# Altium schematic symbol library Schlib1.SchLib: 2 symbols
Pins are listed as number, name and electrical type; pins without a type are passive.

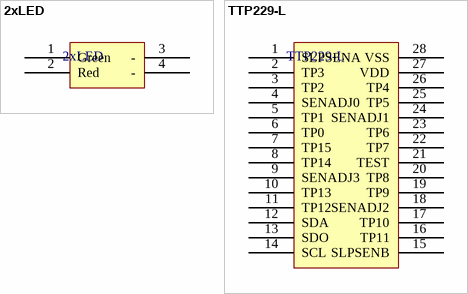
[diagram p0: symbols 2xLED to TTP229-L]

## 2xLED
designator D*
pins: 1 Green, 2 Red, 3 -, 4 -

## TTP229-L
designator U*
pins: 1 SLPSENA, 2 TP3, 3 TP2, 4 SENADJ0, 5 TP1, 6 TP0, 7 TP15, 8 TP14, 9 SENADJ3, 10 TP13, 11 TP12, 12 SDA, 13 SDO, 14 SCL, 15 SLPSENB, 16 TP11, 17 TP10, 18 SENADJ2, 19 TP9, 20 TP8, 21 TEST, 22 TP7, 23 TP6, 24 SENADJ1, 25 TP5, 26 TP4, 27 VDD, 28 VSS